# Altium integrated library NSC Legacy.IntLib: 687 symbols (part 1 of 17)
Pins are listed as number, name and electrical type; pins without a type are passive.

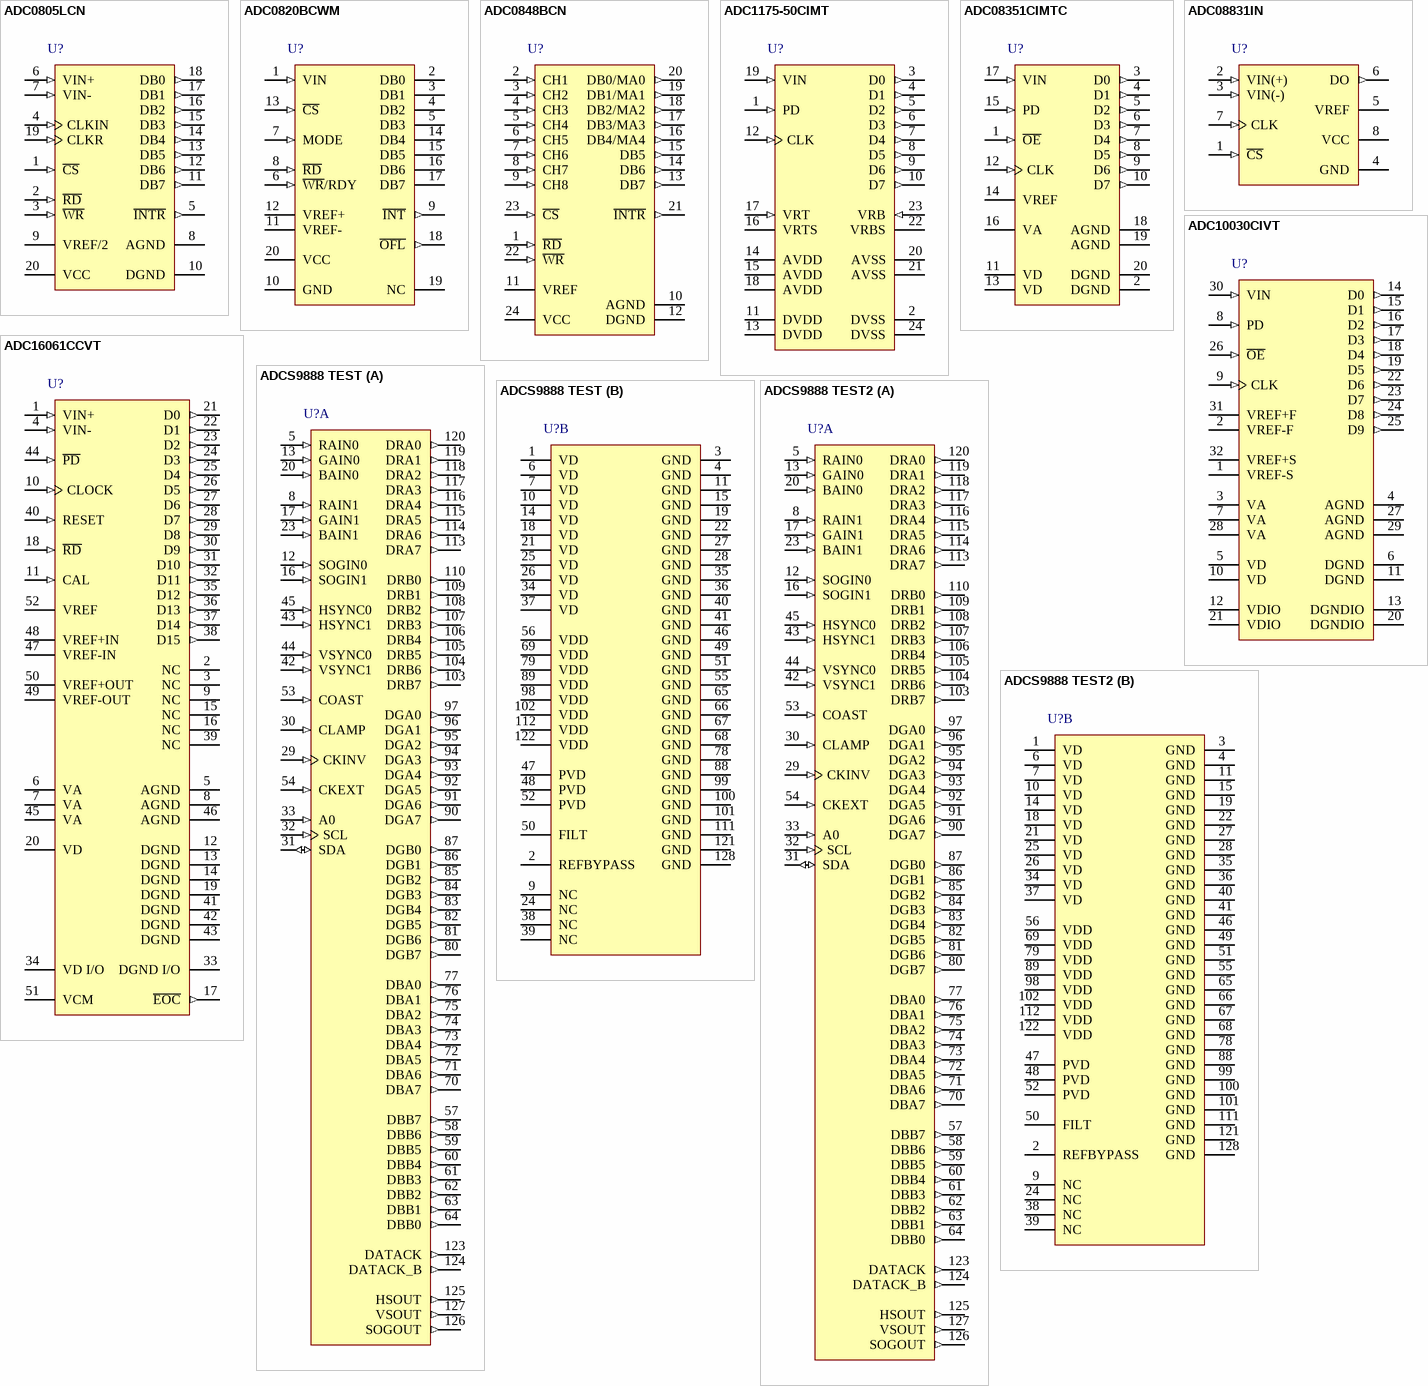
[diagram p0: symbols ADC0805LCN to ADCS9888 TEST2]

## ADC0805LCN
designator U?
8-Bit uP Compatible A/D Converters, 20-pin MDIP; PartNumber: ADC0805LCN; Manufacturer: National Semiconductor; PackageTopMarking: NSUZXYYTTE#*ADC0805LCN; CompType: ADC IC; Published: 4-Dec-2008; DatasheetVersion: Sep-1992; PackageVersion: revG, Nov-1984; PackageReference: N20A; Publisher: Altium Limited; PackageDescription: Molded Dip (N) 20 Lead; RoHS: Y; PinCount: 20; Code_JEDEC: MS-001-AD; ComponentLink1Description: ADC0805 Datasheet; ComponentLink1URL: http://www.national.com/ds/AD/ADC0805.pdf; ComponentLink2Description: ADC0805 Web Page; ComponentLink2URL: http://www.national.com/pf/AD/ADC0805.html; ComponentLink3Description: N20A Package Page; ComponentLink3URL: http://www.national.com/packaging/folders/n20a.html
footprint N20A (DIP, 20-Leads, Row Spacing 7.62mm, Pitch 2.54mm, Body 26.07x6.6mm)
pins: 1 ~{CS} (in), 2 ~{RD} (in), 3 ~{WR} (in), 4 CLKIN (in), 5 ~{INTR} (out), 6 VIN+ (in), 7 VIN- (in), 8 AGND (power), 9 VREF/2 (power), 10 DGND (power), 11 DB7 (out), 12 DB6 (out), 13 DB5 (out), 14 DB4 (out), 15 DB3 (out), 16 DB2 (out), 17 DB1 (out), 18 DB0 (out), 19 CLKR (in), 20 VCC (power)

## ADC0820BCWM
designator U?
8-Bit High Speed uP Compatible A/D Converter with Track/Hold Function, 20-pin Wide SOIC; PartNumber: ADC0820BCWM; Manufacturer: National Semiconductor; PackageTopMarking: NSUZXYTT*ADC0820*BCWM; CompType: ADC IC; Published: 4-Dec-2008; DatasheetVersion: May-1998; PackageVersion: revG, Jan-1996; PackageReference: M20B; Publisher: Altium Limited; PackageDescription: Molded Package, S0, .300in Wide, 20 Lead; RoHS: O; PinCount: 20; Code_JEDEC: MS-013-AC; Code_IPC: SOIC127P1030-20; ComponentLink1Description: ADC0820 Datasheet; ComponentLink1URL: http://www.national.com/ds/AD/ADC0820.pdf; ComponentLink2Description: ADC0820 Web Page; ComponentLink2URL: http://www.national.com/pf/AD/ADC0820.html; ComponentLink3Description: M20B Package Page; ComponentLink3URL: http://www.national.com/packaging/folders/m20b.html
footprint M20B_N (SOIC, 20-Leads, Body 12.8x7.5mm, Pitch 1.27mm, IPC Medium Density)
footprint M20B_L (SOIC, 20-Leads, Body 12.8x7.5mm, Pitch 1.27mm, IPC High Density)
footprint M20B_M (SOIC, 20-Leads, Body 12.8x7.5mm, Pitch 1.27mm, IPC Low Density)
pins: 1 VIN (in), 2 DB0 (hiz), 3 DB1 (hiz), 4 DB2 (hiz), 5 DB3 (hiz), 6 ~{WR}/RDY (in), 7 MODE (in), 8 ~{RD} (in), 9 ~{INT} (out), 10 GND (power), 11 VREF- (power), 12 VREF+ (power), 13 ~{CS} (in), 14 DB4 (hiz), 15 DB5 (hiz), 16 DB6 (hiz), 17 DB7 (hiz), 18 ~{OFL} (out), 19 NC, 20 VCC (power)

## ADC0848BCN
designator U?
8-Bit Microprocessor Compatible A/D Converter with Multiplexer Option, 24-pin MDIP; PartNumber: ADC0848BCN; Manufacturer: National Semiconductor; PackageTopMarking: NSUZXYYTTE#*ADC0848*BCN; CompType: ADC IC; Published: 4-Dec-2008; LatestRevisionDate: 13-Jan-2009; LatestRevisionNote: Package N24D replaced N24C.; DatasheetVersion: Dec-2008; PackageVersion: revB, Feb-1989; PackageReference: N24D; Publisher: Altium Limited; PackageDescription: Molded Dip (N), 24 Lead, .300in, Subcontractor Package; Supplier 1: Farnell; Supplier Part Number 1: 949838; RoHS: Y; PinCount: 24; Code_JEDEC: MS-001-AF; ComponentLink1Description: ADC0844 Datasheet; ComponentLink1URL: http://www.national.com/ds/AD/ADC0844.pdf; ComponentLink2Description: ADC0848 Web Page; ComponentLink2URL: http://www.national.com/mpf/DC/ADC0848.html; ComponentLink3Description: N24D Package Page; ComponentLink3URL: http://www.national.com/packaging/folders/n24d.html
footprint N24D (DIP, 24-Leads, Row Spacing 7.62mm, Pitch 2.54mm, Body 32x6.6mm)
pins: 1 ~{RD} (in), 2 CH1 (in), 3 CH2 (in), 4 CH3 (in), 5 CH4 (in), 6 CH5 (in), 7 CH6 (in), 8 CH7 (in), 9 CH8 (in), 10 AGND (power), 11 VREF (power), 12 DGND (power), 13 DB7 (out), 14 DB6 (out), 15 DB5 (out), 16 DB4/MA4 (out), 17 DB3/MA3 (out), 18 DB2/MA2 (out), 19 DB1/MA1 (out), 20 DB0/MA0 (out), 21 ~{INTR} (out), 22 ~{WR} (in), 23 ~{CS} (in), 24 VCC (power)

## ADC1175-50CIMT
designator U?
8-Bit, 50 MSPS, 125mW A/D Converter, 24-pin TSSOP; PartNumber: ADC1175-50CIMT; Manufacturer: National Semiconductor; PackageTopMarking: NSUZXYTT*ADC1175-50*CIMT; CompType: ADC IC; Published: 4-Dec-2008; DatasheetVersion: Nov-1998; PackageVersion: revE, Mar-2003; PackageReference: MTC24; Publisher: Altium Limited; PackageDescription: Molded TSSOP, Jedec, 7.8 x 4.4 x 0.9mm Body, 24 Lead, 0.65mm Pitch; RoHS: Y; PinCount: 24; Code_JEDEC: MO-153-AD; ComponentLink1Description: ADC1175-50 Datasheet; ComponentLink1URL: http://www.national.com/ds/AD/ADC1175-50.pdf; ComponentLink2Description: ADC1175-50 Web Page; ComponentLink2URL: http://www.national.com/pf/AD/ADC1175-50.html; ComponentLink3Description: MTC24 Package Page; ComponentLink3URL: http://www.national.com/packaging/folders/mtc24.html
footprint MTC24_N (TSOP, 24-Leads, Body 7.8x4.4mm, Pitch 0.65mm, IPC Medium Density)
footprint MTC24_L (TSOP, 24-Leads, Body 7.8x4.4mm, Pitch 0.65mm, IPC High Density)
footprint MTC24_M (TSOP, 24-Leads, Body 7.8x4.4mm, Pitch 0.65mm, IPC Low Density)
pins: 1 PD (in), 2 DVSS (power), 3 D0 (out), 4 D1 (out), 5 D2 (out), 6 D3 (out), 7 D4 (out), 8 D5 (out), 9 D6 (out), 10 D7 (out), 11 DVDD (power), 12 CLK (in), 13 DVDD (power), 14 AVDD (power), 15 AVDD (power), 16 VRTS (power), 17 VRT (in), 18 AVDD (power), 19 VIN (in), 20 AVSS (power), 21 AVSS (power), 22 VRBS (power), 23 VRB (in), 24 DVSS (power)

## ADC08351CIMTC
designator U?
8-Bit, 42 MSPS, 40mW A/D Converter, 20-pin TSSOP; PartNumber: ADC08351CIMTC; Manufacturer: National Semiconductor; PackageTopMarking: NSUZXYTT*ADC08351*CIMTC; CompType: ADC IC; Published: 4-Dec-2008; DatasheetVersion: Oct-1998; PackageVersion: revE, Mar-2003; PackageReference: MTC20; Publisher: Altium Limited; PackageDescription: Molded TSSOP, Jedec, 6.5 x 4.4 x 0.9mm Body, 20 Lead, 0.65mm Pitch; RoHS: Y; PinCount: 20; Code_JEDEC: MO-153-AC; ComponentLink1Description: ADC08351 Datasheet; ComponentLink1URL: http://www.national.com/ds/AD/ADC08351.pdf; ComponentLink2Description: ADC08351 Web Page; ComponentLink2URL: http://www.national.com/pf/AD/ADC08351.html; ComponentLink3Description: MTC20 Package Page; ComponentLink3URL: http://www.national.com/packaging/folders/mtc20.html
footprint MTC20_N (TSOP, 20-Leads, Body 6.5x4.4mm, Pitch 0.65mm, IPC Medium Density)
footprint MTC20_L (TSOP, 20-Leads, Body 6.5x4.4mm, Pitch 0.65mm, IPC High Density)
footprint MTC20_M (TSOP, 20-Leads, Body 6.5x4.4mm, Pitch 0.65mm, IPC Low Density)
pins: 1 ~{OE} (in), 2 DGND (power), 3 D0 (out), 4 D1 (out), 5 D2 (out), 6 D3 (out), 7 D4 (out), 8 D5 (out), 9 D6 (out), 10 D7 (out), 11 VD (power), 12 CLK (in), 13 VD (power), 14 VREF (power), 15 PD (in), 16 VA (power), 17 VIN (in), 18 AGND (power), 19 AGND (power), 20 DGND (power)

## ADC08831IN
designator U?
8-Bit Serial I/O CMOS A/D Converters with Multiplexer and Sample/Hold Function, 8-pin MDIP; PartNumber: ADC08831IN; Manufacturer: National Semiconductor; PackageTopMarking: NSUZXYTT*ADC08831*IN; CompType: ADC IC; Published: 4-Dec-2008; DatasheetVersion: Dec-1998; PackageVersion: revG, May-2006; PackageReference: N08E; Publisher: Altium Limited; PackageDescription: MDIP, .365 x .250 x .130in, 8 Lead, .100in Pitch; RoHS: Y; PinCount: 8; Code_JEDEC: MS-001-BA; ComponentLink1Description: ADC08831 Datasheet; ComponentLink1URL: http://www.national.com/ds/AD/ADC08831.pdf; ComponentLink2Description: ADC08831 Web Page; ComponentLink2URL: http://www.national.com/pf/AD/ADC08831.html; ComponentLink3Description: N08E Package Page; ComponentLink3URL: http://www.national.com/packaging/folders/n08e.html
footprint N08E (DIP, 8-Leads, Row Spacing 7.62mm, Pitch 2.54mm, Body 9.91x6.35mm)
pins: 1 ~{CS} (in), 2 VIN(+) (in), 3 VIN(-) (in), 4 GND (power), 5 VREF (power), 6 DO (out), 7 CLK (in), 8 VCC (power)

## ADC10030CIVT
designator U?
10-Bit, 30 MSPS, 125 mW A/D Converter with Internal Sample and Hold, 32-pin LQFP; PartNumber: ADC10030CIVT; Manufacturer: National Semiconductor; PackageTopMarking: NS2ZXYTT*ADC10030*CIVT; CompType: ADC IC; Published: 4-Dec-2008; DatasheetVersion: May-1999; PackageVersion: revE, Dec-1999; PackageReference: VBE32A; Publisher: Altium Limited; PackageDescription: LQFP, JEDEC, Metric, 7 x 7 x 1.4mm, 32 Lead; RoHS: Y; PinCount: 32; ComponentLink1Description: ADC10030 Datasheet; ComponentLink1URL: http://www.national.com/ds/AD/ADC10030.pdf; ComponentLink2Description: ADC10030 Web Page; ComponentLink2URL: http://www.national.com/pf/AD/ADC10030.html; ComponentLink3Description: VBE32A Package Page; ComponentLink3URL: http://www.national.com/packaging/folders/vbe32a.html
footprint VBE32A_N (Thin QFP, 32-Leads, Body 7x7mm, Pitch 0.8mm, IPC Medium Density)
footprint VBE32A_L (Thin QFP, 32-Leads, Body 7x7mm, Pitch 0.8mm, IPC High Density)
footprint VBE32A_M (Thin QFP, 32-Leads, Body 7x7mm, Pitch 0.8mm, IPC Low Density)
pins: 1 VREF-S (power), 2 VREF-F (power), 3 VA (power), 4 AGND (power), 5 VD (power), 6 DGND (power), 7 VA (power), 8 PD (in), 9 CLK (in), 10 VD (power), 11 DGND (power), 12 VDIO (power), 13 DGNDIO (power), 14 D0 (out), 15 D1 (out), 16 D2 (out), 17 D3 (out), 18 D4 (out), 19 D5 (out), 20 DGNDIO (power), 21 VDIO (power), 22 D6 (out), 23 D7 (out), 24 D8 (out), 25 D9 (out), 26 ~{OE} (in), 27 AGND (power), 28 VA (power), 29 AGND (power), 30 VIN (in), 31 VREF+F (power), 32 VREF+S (power)

## ADC16061CCVT
designator U?
Self-Calibrating 16-Bit, 2.5 MSPS, 390mW A/D Converter, 52-pin LQFP; PartNumber: ADC16061CCVT; Manufacturer: National Semiconductor; PackageTopMarking: NSUZXYYTT*ADC16061*CCVT; PowerWise: N; CompType: ADC IC; Published: 4-Dec-2008; DatasheetVersion: Feb-2004; PackageVersion: revB, Dec-1999; PackageReference: VEG52A; Publisher: Altium Limited; PackageDescription: LQFP, Jedec, Metric, 10 x 10 x 1.4mm, 52 Lead; RoHS: Y; PinCount: 52; Code_JEDEC: MS-026-BCC; ComponentLink1Description: ADC16061 Datasheet; ComponentLink1URL: http://www.national.com/ds/AD/ADC16061.pdf; ComponentLink2Description: ADC16061 Web Page; ComponentLink2URL: http://www.national.com/pf/AD/ADC16061.html; ComponentLink3Description: VEG52A Package Page; ComponentLink3URL: http://www.national.com/packaging/folders/veg52a.html
footprint VEG52A_N (Thin QFP, 52-Leads, Body 10 x 10mm, Pitch 0.65mm, IPC Medium Density)
footprint VEG52A_L (Thin QFP, 52-Leads, Body 10 x 10mm, Pitch 0.65mm, IPC High Density)
footprint VEG52A_M (Thin QFP, 52-Leads, Body 10 x 10mm, Pitch 0.65mm, IPC Low Density)
pins: 1 VIN+ (in), 2 NC, 3 NC, 4 VIN- (in), 5 AGND (power), 6 VA (power), 7 VA (power), 8 AGND (power), 9 NC, 10 CLOCK (in), 11 CAL (in), 12 DGND (power), 13 DGND (power), 14 DGND (power), 15 NC, 16 NC, 17 ~{EOC} (out), 18 ~{RD} (in), 19 DGND (power), 20 VD (power), 21 D0 (out), 22 D1 (out), 23 D2 (out), 24 D3 (out), 25 D4 (out), 26 D5 (out), 27 D6 (out), 28 D7 (out), 29 D8 (out), 30 D9 (out), 31 D10 (out), 32 D11 (out), 33 DGND I/O (power), 34 VD I/O (power), 35 D12 (out), 36 D13 (out), 37 D14 (out), 38 D15 (out), 39 NC, 40 RESET (in), 41 DGND (power), 42 DGND (power), 43 DGND (power), 44 ~{PD} (in), 45 VA (power), 46 AGND (power), 47 VREF-IN (power), 48 VREF+IN (power), 49 VREF-OUT (power), 50 VREF+OUT (power), 51 VCM (power), 52 VREF (power)

## ADCS9888 TEST
designator U?
205/170/140 MSPS Video Analog Front End, 128-pin PQFP; PartNumber: ADCS9888 TEST; Manufacturer: National Semiconductor; PackageTopMarking: NSUZXYYTTE#*ADCS9888 TEST; PowerWise: N; CompType: ADC IC; Published: 4-Dec-2008; DatasheetVersion: Jun-2007; PackageVersion: revC, Jun-1998; PackageReference: VLA128A; Publisher: Altium Limited; PackageDescription: PQFP, (S), 14 x 20 x 2.7mm, 128 Lead; RoHS: N; PinCount: 128; ComponentLink1Description: ADCS9888 Datasheet; ComponentLink1URL: http://www.national.com/ds/AD/ADCS9888.pdf; ComponentLink2Description: ADCS9888 Web Page; ComponentLink2URL: http://www.national.com/pf/AD/ADCS9888.html; ComponentLink3Description: VLA128A Package Page; ComponentLink3URL: http://www.national.com/packaging/folders/vla128a.html
footprint VLA128A_N (Shrink QFP, 128-Leads, Body 20x14 mm, Pitch 0.5mm, IPC Medium Density)
footprint VLA128A_L (Shrink QFP, 128-Leads, Body 20x14 mm, Pitch 0.5mm, IPC High Density)
footprint VLA128A_M (Shrink QFP, 128-Leads, Body 20x14 mm, Pitch 0.5mm, IPC Low Density)
part A pins: 5 RAIN0 (in), 8 RAIN1 (in), 12 SOGIN0 (in), 13 GAIN0 (in), 16 SOGIN1 (in), 17 GAIN1 (in), 20 BAIN0 (in), 23 BAIN1 (in), 29 CKINV (in), 30 CLAMP (in), 31 SDA (io), 32 SCL (in), 33 A0 (in), 42 VSYNC1 (in), 43 HSYNC1 (in), 44 VSYNC0 (in), 45 HSYNC0 (in), 53 COAST (in), 54 CKEXT (in), 57 DBB7 (out), 58 DBB6 (out), 59 DBB5 (out), 60 DBB4 (out), 61 DBB3 (out), 62 DBB2 (out), 63 DBB1 (out), 64 DBB0 (out), 70 DBA7 (out), 71 DBA6 (out), 72 DBA5 (out), 73 DBA4 (out), 74 DBA3 (out), 75 DBA2 (out), 76 DBA1 (out), 77 DBA0 (out), 80 DGB7 (out), 81 DGB6 (out), 82 DGB5 (out), 83 DGB4 (out), 84 DGB3 (out), 85 DGB2 (out), 86 DGB1 (out), 87 DGB0 (out), 90 DGA7 (out), 91 DGA6 (out), 92 DGA5 (out), 93 DGA4 (out), 94 DGA3 (out), 95 DGA2 (out), 96 DGA1 (out), 97 DGA0 (out), 103 DRB7 (out), 104 DRB6 (out), 105 DRB5 (out), 106 DRB4 (out), 107 DRB3 (out), 108 DRB2 (out), 109 DRB1 (out), 110 DRB0 (out), 113 DRA7 (out), 114 DRA6 (out), 115 DRA5 (out), 116 DRA4 (out), 117 DRA3 (out), 118 DRA2 (out), 119 DRA1 (out), 120 DRA0 (out), 123 DATACK (out), 124 DATACK_B (out), 125 HSOUT (out), 126 SOGOUT (out), 127 VSOUT (out)
part B pins: 1 VD (power), 2 REFBYPASS, 3 GND (power), 4 GND (power), 6 VD (power), 7 VD (power), 9 NC, 10 VD (power), 11 GND (power), 14 VD (power), 15 GND (power), 18 VD (power), 19 GND (power), 21 VD (power), 22 GND (power), 24 NC, 25 VD (power), 26 VD (power), 27 GND (power), 28 GND (power), 34 VD (power), 35 GND (power), 36 GND (power), 37 VD (power), 38 NC, 39 NC, 40 GND (power), 41 GND (power), 46 GND (power), 47 PVD (power), 48 PVD (power), 49 GND (power), 50 FILT, 51 GND (power), 52 PVD (power), 55 GND (power), 56 VDD (power), 65 GND (power), 66 GND (power), 67 GND (power), 68 GND (power), 69 VDD (power), 78 GND (power), 79 VDD (power), 88 GND (power), 89 VDD (power), 98 VDD (power), 99 GND (power), 100 GND (power), 101 GND (power), 102 VDD (power), 111 GND (power), 112 VDD (power), 121 GND (power), 122 VDD (power), 128 GND (power)

## ADCS9888 TEST2
designator U?
205/170/140 MSPS Video Analog Front End, 128-pin PQFP; PartNumber: ADCS9888 TEST2; Manufacturer: National Semiconductor; PackageTopMarking: NSUZXYYTTE#*ADCS9888 TEST2; PowerWise: N; CompType: ADC IC; Published: 4-Dec-2008; DatasheetVersion: Jun-2007; PackageVersion: revC, Jun-1998; PackageReference: VLA128A; Publisher: Altium Limited; PackageDescription: PQFP, (S), 14 x 20 x 2.7mm, 128 Lead; RoHS: N; PinCount: 128; ComponentLink1Description: ADCS9888 Datasheet; ComponentLink1URL: http://www.national.com/ds/AD/ADCS9888.pdf; ComponentLink2Description: ADCS9888 Web Page; ComponentLink2URL: http://www.national.com/pf/AD/ADCS9888.html; ComponentLink3Description: VLA128A Package Page; ComponentLink3URL: http://www.national.com/packaging/folders/vla128a.html
footprint VLA128A_N (Shrink QFP, 128-Leads, Body 20x14 mm, Pitch 0.5mm, IPC Medium Density)
footprint VLA128A_L (Shrink QFP, 128-Leads, Body 20x14 mm, Pitch 0.5mm, IPC High Density)
footprint VLA128A_M (Shrink QFP, 128-Leads, Body 20x14 mm, Pitch 0.5mm, IPC Low Density)
part A pins: 5 RAIN0 (in), 8 RAIN1 (in), 12 SOGIN0 (in), 13 GAIN0 (in), 16 SOGIN1 (in), 17 GAIN1 (in), 20 BAIN0 (in), 23 BAIN1 (in), 29 CKINV (in), 30 CLAMP (in), 31 SDA (io), 32 SCL (in), 33 A0 (in), 42 VSYNC1 (in), 43 HSYNC1 (in), 44 VSYNC0 (in), 45 HSYNC0 (in), 53 COAST (in), 54 CKEXT (in), 57 DBB7 (out), 58 DBB6 (out), 59 DBB5 (out), 60 DBB4 (out), 61 DBB3 (out), 62 DBB2 (out), 63 DBB1 (out), 64 DBB0 (out), 70 DBA7 (out), 71 DBA6 (out), 72 DBA5 (out), 73 DBA4 (out), 74 DBA3 (out), 75 DBA2 (out), 76 DBA1 (out), 77 DBA0 (out), 80 DGB7 (out), 81 DGB6 (out), 82 DGB5 (out), 83 DGB4 (out), 84 DGB3 (out), 85 DGB2 (out), 86 DGB1 (out), 87 DGB0 (out), 90 DGA7 (out), 91 DGA6 (out), 92 DGA5 (out), 93 DGA4 (out), 94 DGA3 (out), 95 DGA2 (out), 96 DGA1 (out), 97 DGA0 (out), 103 DRB7 (out), 104 DRB6 (out), 105 DRB5 (out), 106 DRB4 (out), 107 DRB3 (out), 108 DRB2 (out), 109 DRB1 (out), 110 DRB0 (out), 113 DRA7 (out), 114 DRA6 (out), 115 DRA5 (out), 116 DRA4 (out), 117 DRA3 (out), 118 DRA2 (out), 119 DRA1 (out), 120 DRA0 (out), 123 DATACK (out), 124 DATACK_B (out), 125 HSOUT (out), 126 SOGOUT (out), 127 VSOUT (out)
part B pins: 1 VD (power), 2 REFBYPASS, 3 GND (power), 4 GND (power), 6 VD (power), 7 VD (power), 9 NC, 10 VD (power), 11 GND (power), 14 VD (power), 15 GND (power), 18 VD (power), 19 GND (power), 21 VD (power), 22 GND (power), 24 NC, 25 VD (power), 26 VD (power), 27 GND (power), 28 GND (power), 34 VD (power), 35 GND (power), 36 GND (power), 37 VD (power), 38 NC, 39 NC, 40 GND (power), 41 GND (power), 46 GND (power), 47 PVD (power), 48 PVD (power), 49 GND (power), 50 FILT, 51 GND (power), 52 PVD (power), 55 GND (power), 56 VDD (power), 65 GND (power), 66 GND (power), 67 GND (power), 68 GND (power), 69 VDD (power), 78 GND (power), 79 VDD (power), 88 GND (power), 89 VDD (power), 98 VDD (power), 99 GND (power), 100 GND (power), 101 GND (power), 102 VDD (power), 111 GND (power), 112 VDD (power), 121 GND (power), 122 VDD (power), 128 GND (power)

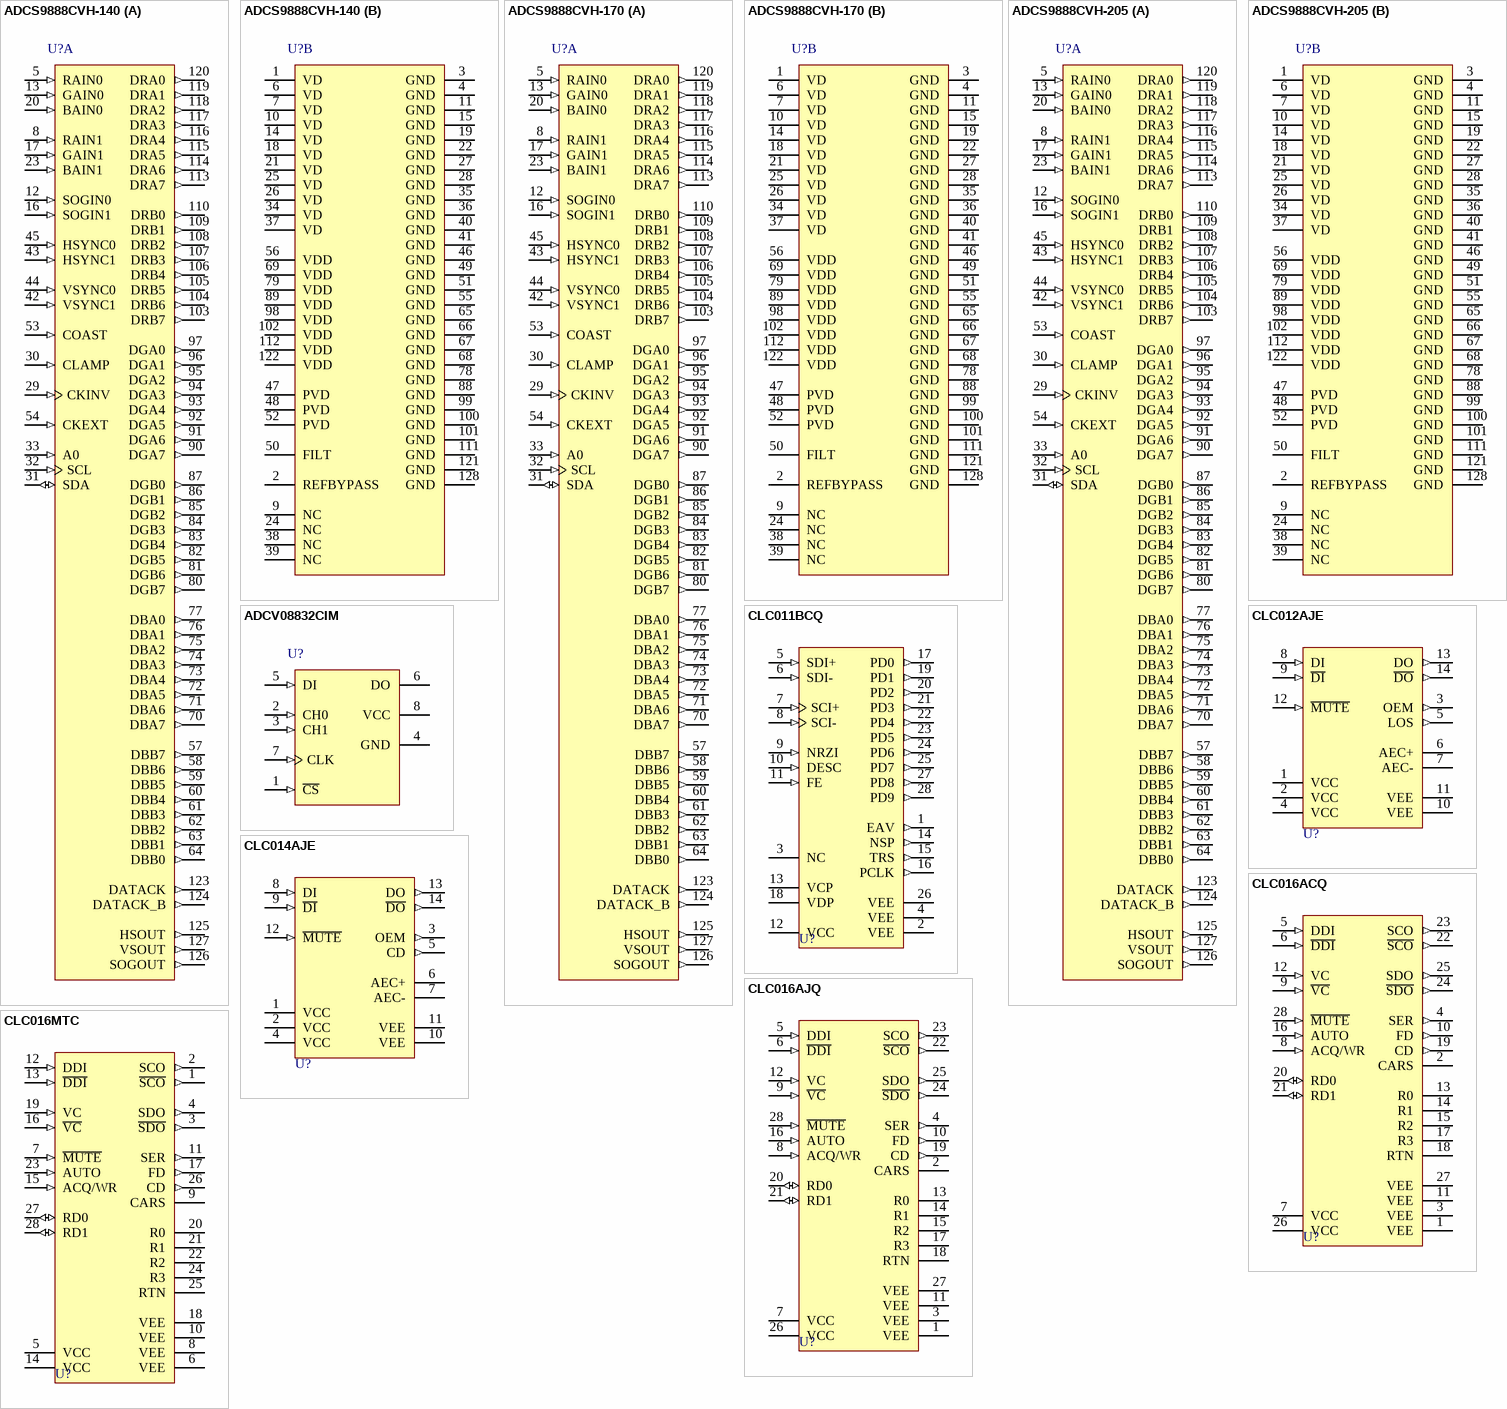
[diagram p1: symbols ADCS9888CVH-140 to CLC016MTC]

## ADCS9888CVH-140
designator U?
205/170/140 MSPS Video Analog Front End, 128-pin PQFP; PartNumber: ADCS9888CVH-140; Manufacturer: National Semiconductor; PackageTopMarking: NSUZXYYTTE#*ADCS9888CVH*-140; CompType: ADC IC; Published: 4-Dec-2008; DatasheetVersion: Dec-2003; PackageVersion: revC, Jun-1998; PackageReference: VLA128A; Publisher: Altium Limited; PackageDescription: PQFP, (S), 14 x 20 x 2.7mm, 128 Lead; Supplier 1: Farnell; Supplier Part Number 1: 8181438; RoHS: Y; PinCount: 128; ComponentLink1Description: ADCS9888 Datasheet; ComponentLink1URL: http://www.national.com/ds/AD/ADCS9888.pdf; ComponentLink2Description: ADCS9888 Web Page; ComponentLink2URL: http://www.national.com/pf/AD/ADCS9888.html; ComponentLink3Description: VLA128A Package Page; ComponentLink3URL: http://www.national.com/packaging/folders/vla128a.html
footprint VLA128A_N (Shrink QFP, 128-Leads, Body 20x14 mm, Pitch 0.5mm, IPC Medium Density)
footprint VLA128A_L (Shrink QFP, 128-Leads, Body 20x14 mm, Pitch 0.5mm, IPC High Density)
footprint VLA128A_M (Shrink QFP, 128-Leads, Body 20x14 mm, Pitch 0.5mm, IPC Low Density)
part A pins: 5 RAIN0 (in), 8 RAIN1 (in), 12 SOGIN0 (in), 13 GAIN0 (in), 16 SOGIN1 (in), 17 GAIN1 (in), 20 BAIN0 (in), 23 BAIN1 (in), 29 CKINV (in), 30 CLAMP (in), 31 SDA (io), 32 SCL (in), 33 A0 (in), 42 VSYNC1 (in), 43 HSYNC1 (in), 44 VSYNC0 (in), 45 HSYNC0 (in), 53 COAST (in), 54 CKEXT (in), 57 DBB7 (out), 58 DBB6 (out), 59 DBB5 (out), 60 DBB4 (out), 61 DBB3 (out), 62 DBB2 (out), 63 DBB1 (out), 64 DBB0 (out), 70 DBA7 (out), 71 DBA6 (out), 72 DBA5 (out), 73 DBA4 (out), 74 DBA3 (out), 75 DBA2 (out), 76 DBA1 (out), 77 DBA0 (out), 80 DGB7 (out), 81 DGB6 (out), 82 DGB5 (out), 83 DGB4 (out), 84 DGB3 (out), 85 DGB2 (out), 86 DGB1 (out), 87 DGB0 (out), 90 DGA7 (out), 91 DGA6 (out), 92 DGA5 (out), 93 DGA4 (out), 94 DGA3 (out), 95 DGA2 (out), 96 DGA1 (out), 97 DGA0 (out), 103 DRB7 (out), 104 DRB6 (out), 105 DRB5 (out), 106 DRB4 (out), 107 DRB3 (out), 108 DRB2 (out), 109 DRB1 (out), 110 DRB0 (out), 113 DRA7 (out), 114 DRA6 (out), 115 DRA5 (out), 116 DRA4 (out), 117 DRA3 (out), 118 DRA2 (out), 119 DRA1 (out), 120 DRA0 (out), 123 DATACK (out), 124 DATACK_B (out), 125 HSOUT (out), 126 SOGOUT (out), 127 VSOUT (out)
part B pins: 1 VD (power), 2 REFBYPASS, 3 GND (power), 4 GND (power), 6 VD (power), 7 VD (power), 9 NC, 10 VD (power), 11 GND (power), 14 VD (power), 15 GND (power), 18 VD (power), 19 GND (power), 21 VD (power), 22 GND (power), 24 NC, 25 VD (power), 26 VD (power), 27 GND (power), 28 GND (power), 34 VD (power), 35 GND (power), 36 GND (power), 37 VD (power), 38 NC, 39 NC, 40 GND (power), 41 GND (power), 46 GND (power), 47 PVD (power), 48 PVD (power), 49 GND (power), 50 FILT, 51 GND (power), 52 PVD (power), 55 GND (power), 56 VDD (power), 65 GND (power), 66 GND (power), 67 GND (power), 68 GND (power), 69 VDD (power), 78 GND (power), 79 VDD (power), 88 GND (power), 89 VDD (power), 98 VDD (power), 99 GND (power), 100 GND (power), 101 GND (power), 102 VDD (power), 111 GND (power), 112 VDD (power), 121 GND (power), 122 VDD (power), 128 GND (power)

## ADCS9888CVH-170
designator U?
205/170/140 MSPS Video Analog Front End, 128-pin PQFP; PartNumber: ADCS9888CVH-170; Manufacturer: National Semiconductor; PackageTopMarking: NSUZXYYTTE#*ADCS9888CVH*-170; CompType: ADC IC; Published: 4-Dec-2008; DatasheetVersion: Dec-2003; PackageVersion: revC, Jun-1998; PackageReference: VLA128A; Publisher: Altium Limited; PackageDescription: PQFP, (S), 14 x 20 x 2.7mm, 128 Lead; Supplier 1: Farnell; Supplier Part Number 1: 8181446; RoHS: O; PinCount: 128; ComponentLink1Description: ADCS9888 Datasheet; ComponentLink1URL: http://www.national.com/ds/AD/ADCS9888.pdf; ComponentLink2Description: ADCS9888 Web Page; ComponentLink2URL: http://www.national.com/pf/AD/ADCS9888.html; ComponentLink3Description: VLA128A Package Page; ComponentLink3URL: http://www.national.com/packaging/folders/vla128a.html
footprint VLA128A_N (Shrink QFP, 128-Leads, Body 20x14 mm, Pitch 0.5mm, IPC Medium Density)
footprint VLA128A_L (Shrink QFP, 128-Leads, Body 20x14 mm, Pitch 0.5mm, IPC High Density)
footprint VLA128A_M (Shrink QFP, 128-Leads, Body 20x14 mm, Pitch 0.5mm, IPC Low Density)
part A pins: 5 RAIN0 (in), 8 RAIN1 (in), 12 SOGIN0 (in), 13 GAIN0 (in), 16 SOGIN1 (in), 17 GAIN1 (in), 20 BAIN0 (in), 23 BAIN1 (in), 29 CKINV (in), 30 CLAMP (in), 31 SDA (io), 32 SCL (in), 33 A0 (in), 42 VSYNC1 (in), 43 HSYNC1 (in), 44 VSYNC0 (in), 45 HSYNC0 (in), 53 COAST (in), 54 CKEXT (in), 57 DBB7 (out), 58 DBB6 (out), 59 DBB5 (out), 60 DBB4 (out), 61 DBB3 (out), 62 DBB2 (out), 63 DBB1 (out), 64 DBB0 (out), 70 DBA7 (out), 71 DBA6 (out), 72 DBA5 (out), 73 DBA4 (out), 74 DBA3 (out), 75 DBA2 (out), 76 DBA1 (out), 77 DBA0 (out), 80 DGB7 (out), 81 DGB6 (out), 82 DGB5 (out), 83 DGB4 (out), 84 DGB3 (out), 85 DGB2 (out), 86 DGB1 (out), 87 DGB0 (out), 90 DGA7 (out), 91 DGA6 (out), 92 DGA5 (out), 93 DGA4 (out), 94 DGA3 (out), 95 DGA2 (out), 96 DGA1 (out), 97 DGA0 (out), 103 DRB7 (out), 104 DRB6 (out), 105 DRB5 (out), 106 DRB4 (out), 107 DRB3 (out), 108 DRB2 (out), 109 DRB1 (out), 110 DRB0 (out), 113 DRA7 (out), 114 DRA6 (out), 115 DRA5 (out), 116 DRA4 (out), 117 DRA3 (out), 118 DRA2 (out), 119 DRA1 (out), 120 DRA0 (out), 123 DATACK (out), 124 DATACK_B (out), 125 HSOUT (out), 126 SOGOUT (out), 127 VSOUT (out)
part B pins: 1 VD (power), 2 REFBYPASS, 3 GND (power), 4 GND (power), 6 VD (power), 7 VD (power), 9 NC, 10 VD (power), 11 GND (power), 14 VD (power), 15 GND (power), 18 VD (power), 19 GND (power), 21 VD (power), 22 GND (power), 24 NC, 25 VD (power), 26 VD (power), 27 GND (power), 28 GND (power), 34 VD (power), 35 GND (power), 36 GND (power), 37 VD (power), 38 NC, 39 NC, 40 GND (power), 41 GND (power), 46 GND (power), 47 PVD (power), 48 PVD (power), 49 GND (power), 50 FILT, 51 GND (power), 52 PVD (power), 55 GND (power), 56 VDD (power), 65 GND (power), 66 GND (power), 67 GND (power), 68 GND (power), 69 VDD (power), 78 GND (power), 79 VDD (power), 88 GND (power), 89 VDD (power), 98 VDD (power), 99 GND (power), 100 GND (power), 101 GND (power), 102 VDD (power), 111 GND (power), 112 VDD (power), 121 GND (power), 122 VDD (power), 128 GND (power)

## ADCS9888CVH-205
designator U?
205/170/140 MSPS Video Analog Front End, 128-pin PQFP; PartNumber: ADCS9888CVH-205; Manufacturer: National Semiconductor; PackageTopMarking: NSUZXYYTTE#*ADCS9888CVH*-205; CompType: ADC IC; Published: 4-Dec-2008; DatasheetVersion: Dec-2003; PackageVersion: revC, Jun-1998; PackageReference: VLA128A; Publisher: Altium Limited; PackageDescription: PQFP, (S), 14 x 20 x 2.7mm, 128 Lead; Supplier 1: Farnell; Supplier Part Number 1: 8181454; RoHS: Y; PinCount: 128; ComponentLink1Description: ADCS9888 Datasheet; ComponentLink1URL: http://www.national.com/ds/AD/ADCS9888.pdf; ComponentLink2Description: ADCS9888 Web Page; ComponentLink2URL: http://www.national.com/pf/AD/ADCS9888.html; ComponentLink3Description: VLA128A Package Page; ComponentLink3URL: http://www.national.com/packaging/folders/vla128a.html
footprint VLA128A_N (Shrink QFP, 128-Leads, Body 20x14 mm, Pitch 0.5mm, IPC Medium Density)
footprint VLA128A_L (Shrink QFP, 128-Leads, Body 20x14 mm, Pitch 0.5mm, IPC High Density)
footprint VLA128A_M (Shrink QFP, 128-Leads, Body 20x14 mm, Pitch 0.5mm, IPC Low Density)
part A pins: 5 RAIN0 (in), 8 RAIN1 (in), 12 SOGIN0 (in), 13 GAIN0 (in), 16 SOGIN1 (in), 17 GAIN1 (in), 20 BAIN0 (in), 23 BAIN1 (in), 29 CKINV (in), 30 CLAMP (in), 31 SDA (io), 32 SCL (in), 33 A0 (in), 42 VSYNC1 (in), 43 HSYNC1 (in), 44 VSYNC0 (in), 45 HSYNC0 (in), 53 COAST (in), 54 CKEXT (in), 57 DBB7 (out), 58 DBB6 (out), 59 DBB5 (out), 60 DBB4 (out), 61 DBB3 (out), 62 DBB2 (out), 63 DBB1 (out), 64 DBB0 (out), 70 DBA7 (out), 71 DBA6 (out), 72 DBA5 (out), 73 DBA4 (out), 74 DBA3 (out), 75 DBA2 (out), 76 DBA1 (out), 77 DBA0 (out), 80 DGB7 (out), 81 DGB6 (out), 82 DGB5 (out), 83 DGB4 (out), 84 DGB3 (out), 85 DGB2 (out), 86 DGB1 (out), 87 DGB0 (out), 90 DGA7 (out), 91 DGA6 (out), 92 DGA5 (out), 93 DGA4 (out), 94 DGA3 (out), 95 DGA2 (out), 96 DGA1 (out), 97 DGA0 (out), 103 DRB7 (out), 104 DRB6 (out), 105 DRB5 (out), 106 DRB4 (out), 107 DRB3 (out), 108 DRB2 (out), 109 DRB1 (out), 110 DRB0 (out), 113 DRA7 (out), 114 DRA6 (out), 115 DRA5 (out), 116 DRA4 (out), 117 DRA3 (out), 118 DRA2 (out), 119 DRA1 (out), 120 DRA0 (out), 123 DATACK (out), 124 DATACK_B (out), 125 HSOUT (out), 126 SOGOUT (out), 127 VSOUT (out)
part B pins: 1 VD (power), 2 REFBYPASS, 3 GND (power), 4 GND (power), 6 VD (power), 7 VD (power), 9 NC, 10 VD (power), 11 GND (power), 14 VD (power), 15 GND (power), 18 VD (power), 19 GND (power), 21 VD (power), 22 GND (power), 24 NC, 25 VD (power), 26 VD (power), 27 GND (power), 28 GND (power), 34 VD (power), 35 GND (power), 36 GND (power), 37 VD (power), 38 NC, 39 NC, 40 GND (power), 41 GND (power), 46 GND (power), 47 PVD (power), 48 PVD (power), 49 GND (power), 50 FILT, 51 GND (power), 52 PVD (power), 55 GND (power), 56 VDD (power), 65 GND (power), 66 GND (power), 67 GND (power), 68 GND (power), 69 VDD (power), 78 GND (power), 79 VDD (power), 88 GND (power), 89 VDD (power), 98 VDD (power), 99 GND (power), 100 GND (power), 101 GND (power), 102 VDD (power), 111 GND (power), 112 VDD (power), 121 GND (power), 122 VDD (power), 128 GND (power)

## ADCV08832CIM
designator U?
Low Voltage, 8-Bit Serial I/O CMOS A/D Converter With Sample/Hold, 8-pin Narrow SOIC; PartNumber: ADCV08832CIM; Manufacturer: National Semiconductor; PackageTopMarking: NSZXTT*ADCV0*8832I; CompType: ADC IC; Published: 4-Dec-2008; DatasheetVersion: Jan-2001; PackageVersion: revM, May-2009; PackageReference: M08A; Publisher: Altium Limited; PackageDescription: SOIC Narrow, 4.9 x 3.9 x 1.45mm, 8 Lead, 1.27mm Pitch; RoHS: O; PinCount: 8; Code_JEDEC: MS-012-AA; Code_IPC: SOIC127P600-8; ComponentLink1Description: ADCV08832 Datasheet; ComponentLink1URL: http://www.national.com/ds/AD/ADCV08832.pdf; ComponentLink2Description: ADCV08832 Web Page; ComponentLink2URL: http://www.national.com/pf/AD/ADCV08832.html; ComponentLink3Description: M08A Package Page; ComponentLink3URL: http://www.national.com/packaging/folders/m08a.html
footprint M08A_N (SOIC, 8-Leads, Body 4.9x3.9mm, Pitch 1.27mm, IPC Medium Density)
footprint M08A_L (SOIC, 8-Leads, Body 4.9x3.9mm, Pitch 1.27mm, IPC High Density)
footprint M08A_M (SOIC, 8-Leads, Body 4.9x3.9mm, Pitch 1.27mm, IPC Low Density)
pins: 1 ~{CS} (in), 2 CH0 (in), 3 CH1 (in), 4 GND (power), 5 DI (in), 6 DO (hiz), 7 CLK (in), 8 VCC (power)

## CLC011BCQ
designator U?
Serial Digital Video Decoder, 28-pin PLCC; PartNumber: CLC011BCQ; Manufacturer: National Semiconductor; PackageTopMarking: NSUZXYYTT*CLC011BCQ; CompType: Interface IC; Published: 4-Dec-2008; DatasheetVersion: Jul-2002; PackageVersion: revK, Dec-1993; PackageReference: V28A; Publisher: Altium Limited; PackageDescription: Plastic Chip Carrier, Sq., .050in Pitch, 28 Lead; Supplier 1: Farnell; Supplier Part Number 1: 7613672; RoHS: O; PinCount: 28; Code_IPC: PLCC-28; ComponentLink1Description: CLC011 Datasheet; ComponentLink1URL: http://www.national.com/ds/CL/CLC011.pdf; ComponentLink2Description: CLC011 Web Page; ComponentLink2URL: http://www.national.com/pf/CL/CLC011.html; ComponentLink3Description: V28A Package Page; ComponentLink3URL: http://www.national.com/packaging/folders/v28a.html
footprint V28A_N (Leaded Chip Carrier, 28-Leads, Body 11.5x11.5mm, Pitch 1.27mm, IPC Medium Density)
footprint V28A_L (Leaded Chip Carrier, 28-Leads, Body 11.5x11.5mm, Pitch 1.27mm, IPC High Density)
footprint V28A_M (Leaded Chip Carrier, 28-Leads, Body 11.5x11.5mm, Pitch 1.27mm, IPC Low Density)
pins: 1 EAV (out), 2 VEE (power), 3 NC, 4 VEE (power), 5 SDI+ (in), 6 SDI- (in), 7 SCI+ (in), 8 SCI- (in), 9 NRZI (in), 10 DESC (in), 11 FE (in), 12 VCC (power), 13 VCP (power), 14 NSP (out), 15 TRS (out), 16 PCLK (out), 17 PD0 (out), 18 VDP (power), 19 PD1 (out), 20 PD2 (out), 21 PD3 (out), 22 PD4 (out), 23 PD5 (out), 24 PD6 (out), 25 PD7 (out), 26 VEE (power), 27 PD8 (out), 28 PD9 (out)

## CLC012AJE
designator U?
Adaptive Cable Equalizer for ITU-T G.703 Data Recovery, 14-pin Narrow SOIC; PartNumber: CLC012AJE; Manufacturer: National Semiconductor; PackageTopMarking: NSUZXYTT*CLC012AJE; PowerWise: N; CompType: Interface IC; Published: 4-Dec-2008; DatasheetVersion: Nov-2003; PackageVersion: revJ, Jan-1996; PackageReference: M14A; Publisher: Altium Limited; PackageDescription: Molded Package S.O., .150in Wide, 14 Lead; RoHS: O; PinCount: 14; Code_JEDEC: MS-012AB; Code_IPC: SOIC127P600-14; ComponentLink1Description: CLC012 Datasheet; ComponentLink1URL: http://www.national.com/ds/CL/CLC012.pdf; ComponentLink2Description: CLC012 Web Page; ComponentLink2URL: http://www.national.com/pf/CL/CLC012.html; ComponentLink3Description: M14A Package Page; ComponentLink3URL: http://www.national.com/packaging/folders/m14a.html
footprint M14A_N (SOIC, 14-Leads, Body 8.6x3.9mm, Pitch 1.27mm, IPC Medium Density)
footprint M14A_L (SOIC, 14-Leads, Body 8.6x3.9mm, Pitch 1.27mm, IPC High Density)
footprint M14A_M (SOIC, 14-Leads, Body 8.6x3.9mm, Pitch 1.27mm, IPC Low Density)
pins: 1 VCC (power), 2 VCC (power), 3 OEM (out), 4 VCC (power), 5 LOS (out), 6 AEC+, 7 AEC-, 8 DI (in), 9 ~{DI} (in), 10 VEE (power), 11 VEE (power), 12 ~{MUTE} (in), 13 DO (out), 14 ~{DO} (out)

## CLC014AJE
designator U?
Adaptive Cable Equalizer for High Speed Data Recovery, 14-pin Narrow SOIC; PartNumber: CLC014AJE; Manufacturer: National Semiconductor; PackageTopMarking: NSUZXYTT*CLC014AJE; CompType: Interface IC; Published: 4-Dec-2008; DatasheetVersion: Aug-2003; PackageVersion: revJ, Jan-1996; PackageReference: M14A; Publisher: Altium Limited; PackageDescription: Molded Package S.O., .150in Wide, 14 Lead; Supplier 1: Farnell; Supplier Part Number 1: 1495093; RoHS: O; PinCount: 14; Code_JEDEC: MS-012AB; Code_IPC: SOIC127P600-14; ComponentLink1Description: CLC014 Datasheet; ComponentLink1URL: http://www.national.com/ds/CL/CLC014.pdf; ComponentLink2Description: CLC014 Web Page; ComponentLink2URL: http://www.national.com/pf/CL/CLC014.html; ComponentLink3Description: M14A Package Page; ComponentLink3URL: http://www.national.com/packaging/folders/m14a.html
footprint M14A_N (SOIC, 14-Leads, Body 8.6x3.9mm, Pitch 1.27mm, IPC Medium Density)
footprint M14A_L (SOIC, 14-Leads, Body 8.6x3.9mm, Pitch 1.27mm, IPC High Density)
footprint M14A_M (SOIC, 14-Leads, Body 8.6x3.9mm, Pitch 1.27mm, IPC Low Density)
pins: 1 VCC (power), 2 VCC (power), 3 OEM (out), 4 VCC (power), 5 CD (out), 6 AEC+, 7 AEC-, 8 DI (in), 9 ~{DI} (in), 10 VEE (power), 11 VEE (power), 12 ~{MUTE} (in), 13 DO (out), 14 ~{DO} (out)

## CLC016ACQ
designator U?
Data Retiming PLL with Automatic Rate Selection, 28-pin PLCC; PartNumber: CLC016ACQ; Manufacturer: National Semiconductor; PackageTopMarking: NSUZXYYTT*CLC016ACQ; PowerWise: N; CompType: Interface IC; Published: 4-Dec-2008; DatasheetVersion: Jul-2002; PackageVersion: revK, Dec-1993; PackageReference: V28A; Publisher: Altium Limited; PackageDescription: Plastic Chip Carrier, Sq., .050in Pitch, 28 Lead; RoHS: O; PinCount: 28; Code_IPC: PLCC-28; ComponentLink1Description: CLC016 Datasheet; ComponentLink1URL: http://www.national.com/ds/CL/CLC016.pdf; ComponentLink2Description: CLC016 Web Page; ComponentLink2URL: http://www.national.com/pf/CL/CLC016.html; ComponentLink3Description: V28A Package Page; ComponentLink3URL: http://www.national.com/packaging/folders/v28a.html
footprint V28A_N (Leaded Chip Carrier, 28-Leads, Body 11.5x11.5mm, Pitch 1.27mm, IPC Medium Density)
footprint V28A_L (Leaded Chip Carrier, 28-Leads, Body 11.5x11.5mm, Pitch 1.27mm, IPC High Density)
footprint V28A_M (Leaded Chip Carrier, 28-Leads, Body 11.5x11.5mm, Pitch 1.27mm, IPC Low Density)
pins: 1 VEE (power), 2 CARS, 3 VEE (power), 4 SER (out), 5 DDI (in), 6 ~{DDI} (in), 7 VCC (power), 8 ACQ/WR (in), 9 ~{VC} (in), 10 FD (out), 11 VEE (power), 12 VC (in), 13 R0, 14 R1, 15 R2, 16 AUTO (in), 17 R3, 18 RTN, 19 CD (out), 20 RD0 (io), 21 RD1 (io), 22 ~{SCO} (out), 23 SCO (out), 24 ~{SDO} (out), 25 SDO (out), 26 VCC (power), 27 VEE (power), 28 ~{MUTE} (in)

## CLC016AJQ
designator U?
Data Retiming PLL with Automatic Rate Selection, 28-pin PLCC; PartNumber: CLC016AJQ; Manufacturer: National Semiconductor; PackageTopMarking: NSUZXYYTT*CLC016AJQ; PowerWise: N; CompType: Interface IC; Published: 4-Dec-2008; DatasheetVersion: Jul-2002; PackageVersion: revK, Dec-1993; PackageReference: V28A; Publisher: Altium Limited; PackageDescription: Plastic Chip Carrier, Sq., .050in Pitch, 28 Lead; Supplier 1: Farnell; Supplier Part Number 1: 7592334; RoHS: O; PinCount: 28; Code_IPC: PLCC-28; ComponentLink1Description: CLC016 Datasheet; ComponentLink1URL: http://www.national.com/ds/CL/CLC016.pdf; ComponentLink2Description: CLC016 Web Page; ComponentLink2URL: http://www.national.com/pf/CL/CLC016.html; ComponentLink3Description: V28A Package Page; ComponentLink3URL: http://www.national.com/packaging/folders/v28a.html
footprint V28A_N (Leaded Chip Carrier, 28-Leads, Body 11.5x11.5mm, Pitch 1.27mm, IPC Medium Density)
footprint V28A_L (Leaded Chip Carrier, 28-Leads, Body 11.5x11.5mm, Pitch 1.27mm, IPC High Density)
footprint V28A_M (Leaded Chip Carrier, 28-Leads, Body 11.5x11.5mm, Pitch 1.27mm, IPC Low Density)
pins: 1 VEE (power), 2 CARS, 3 VEE (power), 4 SER (out), 5 DDI (in), 6 ~{DDI} (in), 7 VCC (power), 8 ACQ/WR (in), 9 ~{VC} (in), 10 FD (out), 11 VEE (power), 12 VC (in), 13 R0, 14 R1, 15 R2, 16 AUTO (in), 17 R3, 18 RTN, 19 CD (out), 20 RD0 (io), 21 RD1 (io), 22 ~{SCO} (out), 23 SCO (out), 24 ~{SDO} (out), 25 SDO (out), 26 VCC (power), 27 VEE (power), 28 ~{MUTE} (in)

## CLC016MTC
designator U?
Data Retiming PLL with Automatic Rate Selection, 28-pin TSSOP; PartNumber: CLC016MTC; Manufacturer: National Semiconductor; PackageTopMarking: NSUZXYTT*CLC016MTC; PowerWise: N; CompType: Interface IC; Published: 4-Dec-2008; DatasheetVersion: Jul-2002; PackageVersion: revD, Jan-2005; PackageReference: MTC28; Publisher: Altium Limited; PackageDescription: Molded TSSOP, Jedec, 9.7 x 4.4 x 0.9mm Body, 28 Lead, 0.65mm Pitch; Supplier 1: Farnell; Supplier Part Number 1: 1286814; RoHS: O; PinCount: 28; Code_JEDEC: MO-153-AE; ComponentLink1Description: CLC016 Datasheet; ComponentLink1URL: http://www.national.com/ds/CL/CLC016.pdf; ComponentLink2Description: CLC016 Web Page; ComponentLink2URL: http://www.national.com/pf/CL/CLC016.html; ComponentLink3Description: MTC28 Package Page; ComponentLink3URL: http://www.national.com/packaging/folders/mtc28.html
footprint MTC28_N (TSOP, 28-Leads, Body 9.7x4.4mm, Pitch 0.65mm, IPC Medium Density)
footprint MTC28_L (TSOP, 28-Leads, Body 9.7x4.4mm, Pitch 0.65mm, IPC High Density)
footprint MTC28_M (TSOP, 28-Leads, Body 9.7x4.4mm, Pitch 0.65mm, IPC Low Density)
pins: 1 ~{SCO} (out), 2 SCO (out), 3 ~{SDO} (out), 4 SDO (out), 5 VCC (power), 6 VEE (power), 7 ~{MUTE} (in), 8 VEE (power), 9 CARS, 10 VEE (power), 11 SER (out), 12 DDI (in), 13 ~{DDI} (in), 14 VCC (power), 15 ACQ/WR (in), 16 ~{VC} (in), 17 FD (out), 18 VEE (power), 19 VC (in), 20 R0, 21 R1, 22 R2, 23 AUTO (in), 24 R3, 25 RTN, 26 CD (out), 27 RD0 (io), 28 RD1 (io)

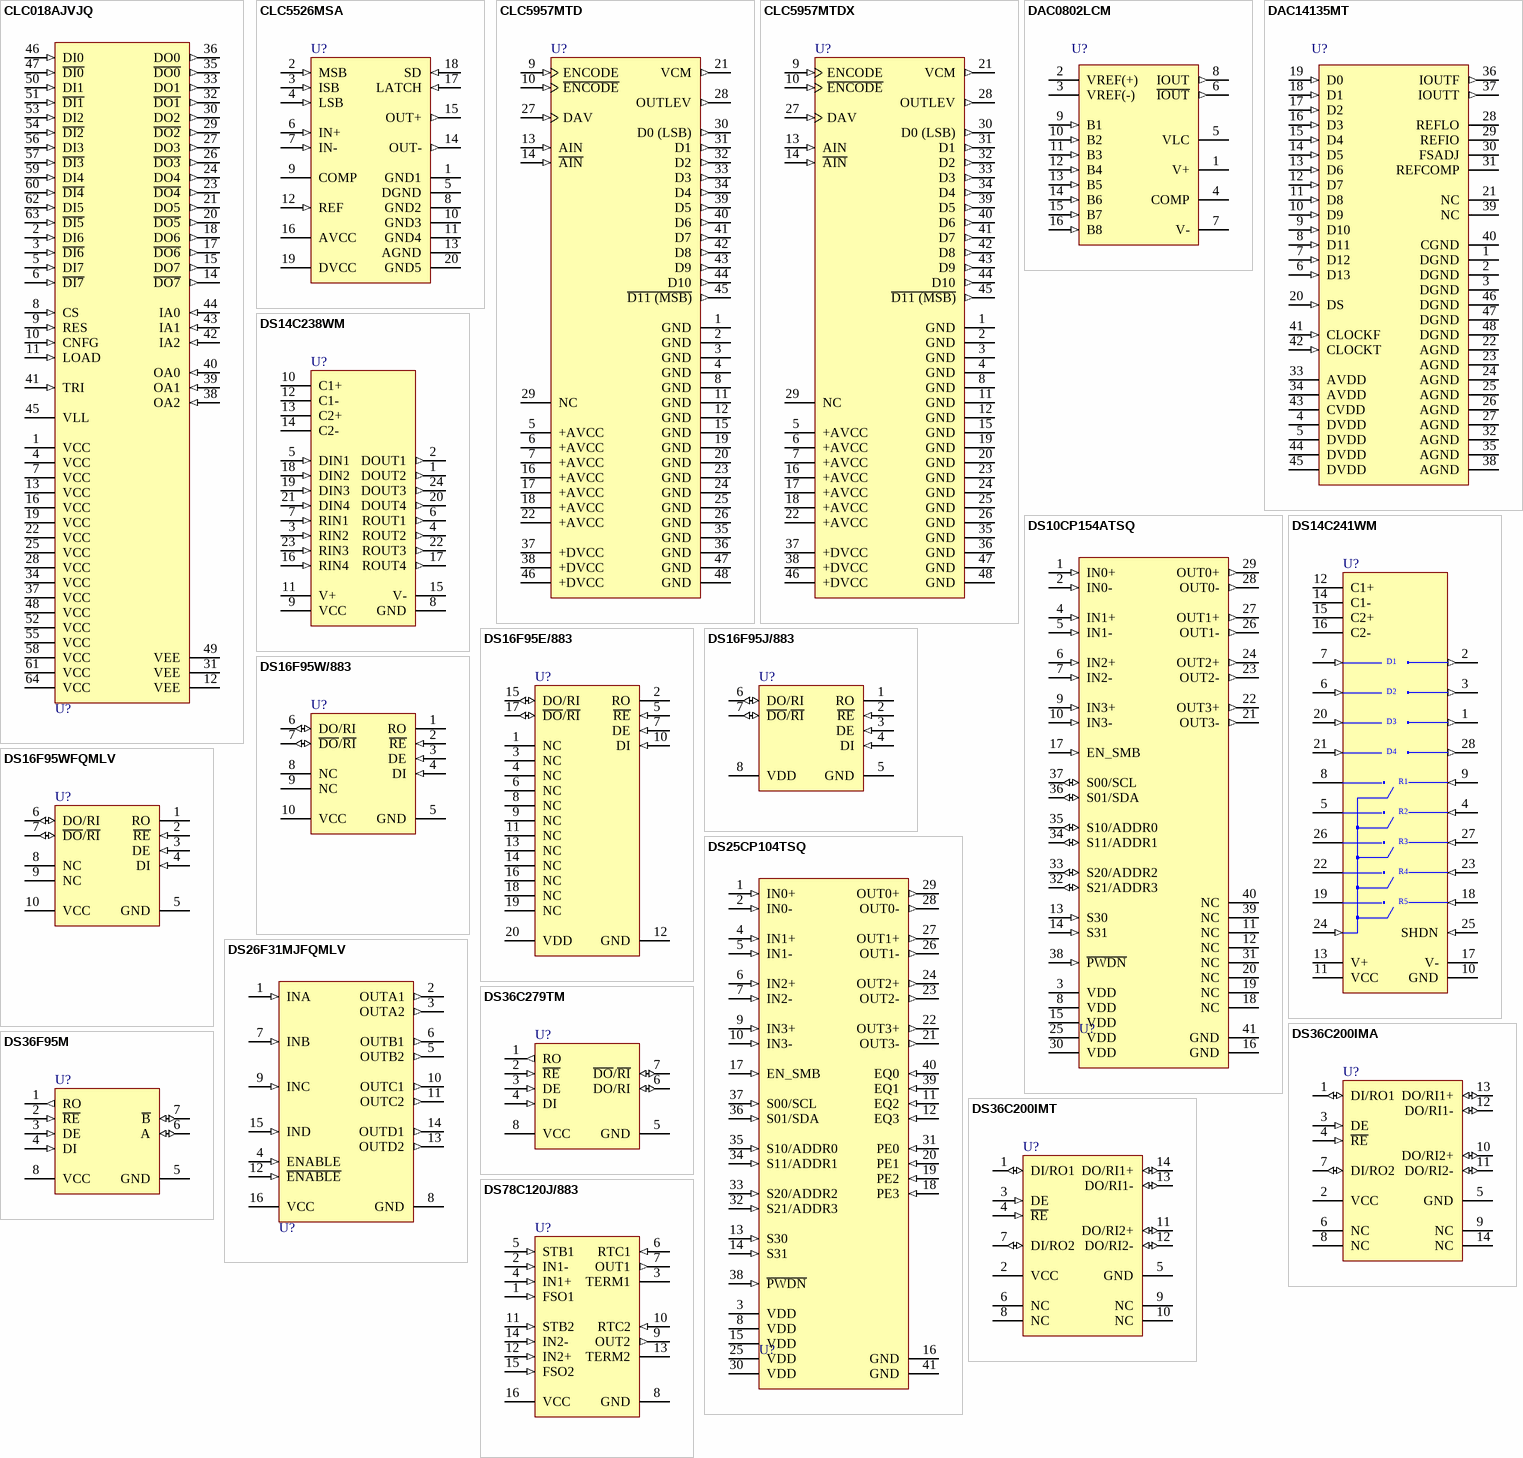
[diagram p2: symbols CLC018AJVJQ to DS78C120J/883]

## CLC018AJVJQ
designator U?
8x8 Digital Crosspoint Switch, 1.4 Gbps, 64-pin PQFP; PartNumber: CLC018AJVJQ; Manufacturer: National Semiconductor; PackageTopMarking: NSUZXYYTT*CLC018AJVJQ; PowerWise: N; CompType: Interface IC; Published: 4-Dec-2008; DatasheetVersion: Aug-2006; PackageVersion: revC, Jul-1995; PackageReference: VJQ64A; Publisher: Altium Limited; PackageDescription: PQFP, JEDEC Metric, (S) 14 x 14 x 2mm, 64 Lead; RoHS: O; PinCount: 64; Code_JEDEC: MS-022-BB; Code_IPC: QFP80P1720X1720-64; ComponentLink1Description: CLC018 Datasheet; ComponentLink1URL: http://www.national.com/ds/CL/CLC018.pdf; ComponentLink2Description: CLC018 Web Page; ComponentLink2URL: http://www.national.com/pf/CL/CLC018.html; ComponentLink3Description: VJQ64A Package Page; ComponentLink3URL: http://www.national.com/packaging/folders/vjq64a.html
footprint VJQ64A_N (QFP, 64-Leads, Body 14x14mm, Pitch 0.8mm, IPC Medium Density)
footprint VJQ64A_L (QFP, 64-Leads, Body 14x14mm, Pitch 0.8mm, IPC High Density)
footprint VJQ64A_M (QFP, 64-Leads, Body 14x14mm, Pitch 0.8mm, IPC Low Density)
pins: 1 VCC (power), 2 DI6 (in), 3 ~{DI6} (in), 4 VCC (power), 5 DI7 (in), 6 ~{DI7} (in), 7 VCC (power), 8 CS (in), 9 RES (in), 10 CNFG (in), 11 LOAD (in), 12 VEE (power), 13 VCC (power), 14 ~{DO7} (out), 15 DO7 (out), 16 VCC (power), 17 ~{DO6} (out), 18 DO6 (out), 19 VCC (power), 20 ~{DO5} (out), 21 DO5 (out), 22 VCC (power), 23 ~{DO4} (out), 24 DO4 (out), 25 VCC (power), 26 ~{DO3} (out), 27 DO3 (out), 28 VCC (power), 29 ~{DO2} (out), 30 DO2 (out), 31 VEE (power), 32 ~{DO1} (out), 33 DO1 (out), 34 VCC (power), 35 ~{DO0} (out), 36 DO0 (out), 37 VCC (power), 38 OA2 (in), 39 OA1 (in), 40 OA0 (in), 41 TRI (in), 42 IA2 (in), 43 IA1 (in), 44 IA0 (in), 45 VLL (power), 46 DI0 (in), 47 ~{DI0} (in), 48 VCC (power), 49 VEE (power), 50 DI1 (in), 51 ~{DI1} (in), 52 VCC (power), 53 DI2 (in), 54 ~{DI2} (in), 55 VCC (power), 56 DI3 (in), 57 ~{DI3} (in), 58 VCC (power), 59 DI4 (in), 60 ~{DI4} (in), 61 VCC (power), 62 DI5 (in), 63 ~{DI5} (in), 64 VCC (power)

## CLC5526MSA
designator U?
Digital Variable Gain Amplifier (DVGA), 20-pin SSOP; PartNumber: CLC5526MSA; Manufacturer: National Semiconductor; PackageTopMarking: NSUZXYTT*CLC5526*MSA; PowerWise: N; CompType: Amplifiers; Published: 29-May-2009; DatasheetVersion: Sep-2002; PackageVersion: 2000; PackageReference: MSA20; Publisher: Altium Limited; PackageDescription: Molded SSOP, 5.3mm Body Width, 0.65mm Pitch, EIAJ, Type II, 20 Lead; RoHS: O; PinCount: 20; ComponentLink1Description: CLC5526 Datasheet; ComponentLink1URL: http://www.national.com/ds/CL/CLC5526.pdf; ComponentLink2Description: CLC5526 Web Page; ComponentLink2URL: http://www.national.com/pf/CL/CLC5526.html; ComponentLink3Description: MSA20 Package Page; ComponentLink3URL: http://www.national.com/packaging/folders/msa20.html
footprint MSA20_N (SOP, 20-Leads, Body 7.3x5.3mm, Pitch 0.65mm, IPC Medium Density)
footprint MSA20_L (SOP, 20-Leads, Body 7.3x5.3mm, Pitch 0.65mm, IPC High Density)
footprint MSA20_M (SOP, 20-Leads, Body 7.3x5.3mm, Pitch 0.65mm, IPC Low Density)
pins: 1 GND1 (power), 2 MSB (in), 3 ISB (in), 4 LSB (in), 5 DGND (power), 6 IN+ (in), 7 IN- (in), 8 GND2 (power), 9 COMP, 10 GND3 (power), 11 GND4 (power), 12 REF (in), 13 AGND (power), 14 OUT- (out), 15 OUT+ (out), 16 AVCC (power), 17 LATCH (in), 18 SD (in), 19 DVCC (power), 20 GND5 (power)

## CLC5957MTD
designator U?
12-Bit, 70 MSPS Broadband Monolithic A/D Converter, 48-pin TSSOP; PartNumber: CLC5957MTD; Manufacturer: National Semiconductor; PackageTopMarking: NSUZXYTT*CLC5957MTD; PowerWise: N; CompType: OtherParts; Published: 4-Dec-2008; DatasheetVersion: Apr-2002; PackageVersion: revE, Apr-2003; PackageReference: MTD48; Publisher: Altium Limited; PackageDescription: Molded TSSOP, Jedec, 12.5 x 6.1 x 0.9mm Body, 48 Lead, 0.50mm Pitch; Supplier 1: Farnell; Supplier Part Number 1: 1554777; RoHS: O; PinCount: 48; Code_JEDEC: MO-153-ED; ComponentLink1Description: CLC5957 Datasheet; ComponentLink1URL: http://www.national.com/ds/CL/CLC5957.pdf; ComponentLink2Description: CLC5957 Web Page; ComponentLink2URL: http://www.national.com/pf/CL/CLC5957.html; ComponentLink3Description: MTD48 package page; ComponentLink3URL: http://www.national.com/packaging/folders/mtd48.html
footprint MTD48_N (TSSOP, 48-Leads, Body 12.5x6.1mm, Pitch 0.5mm, IPC Medium Density)
footprint MTD48_L (TSSOP, 48-Leads, Body 12.5x6.1mm, Pitch 0.5mm, IPC High Density)
footprint MTD48_M (TSSOP, 48-Leads, Body 12.5x6.1mm, Pitch 0.5mm, IPC Low Density)
pins: 1 GND (power), 2 GND (power), 3 GND (power), 4 GND (power), 5 +AVCC (power), 6 +AVCC (power), 7 +AVCC (power), 8 GND (power), 9 ENCODE (in), 10 ~{ENCODE} (in), 11 GND (power), 12 GND (power), 13 AIN (in), 14 ~{AIN} (in), 15 GND (power), 16 +AVCC (power), 17 +AVCC (power), 18 +AVCC (power), 19 GND (power), 20 GND (power), 21 VCM (out), 22 +AVCC (power), 23 GND (power), 24 GND (power), 25 GND (power), 26 GND (power), 27 DAV (in), 28 OUTLEV (out), 29 NC, 30 D0 (LSB) (out), 31 D1 (out), 32 D2 (out), 33 D3 (out), 34 D4 (out), 35 GND (power), 36 GND (power), 37 +DVCC (power), 38 +DVCC (power), 39 D5 (out), 40 D6 (out), 41 D7 (out), 42 D8 (out), 43 D9 (out), 44 D10 (out), 45 ~{D11 (MSB)} (out), 46 +DVCC (power), 47 GND (power), 48 GND (power)

## CLC5957MTDX
designator U?
12-Bit, 70 MSPS Broadband Monolithic A/D Converter, 48-pin TSSOP; PartNumber: CLC5957MTDX; Manufacturer: National Semiconductor; PackageTopMarking: NSUZXYTT*CLC5957MTD; CompType: Analog IC; Published: 4-Dec-2008; DatasheetVersion: Apr-2002; PackageVersion: revE, Apr-2003; PackageReference: MTD48; Publisher: Altium Limited; PackageDescription: Molded TSSOP, Jedec, 12.5 x 6.1 x 0.9mm Body, 48 Lead, 0.50mm Pitch; PinCount: 48; Code_JEDEC: MO-153-ED; ComponentLink1Description: CLC5957 Datasheet; ComponentLink1URL: http://www.national.com/ds/CL/CLC5957.pdf; ComponentLink2Description: CLC5957 Web Page; ComponentLink2URL: http://www.national.com/pf/CL/CLC5957.html; ComponentLink3Description: MTD48 package page; ComponentLink3URL: http://www.national.com/packaging/folders/mtd48.html
footprint MTD48_N (TSSOP, 48-Leads, Body 12.5x6.1mm, Pitch 0.5mm, IPC Medium Density)
footprint MTD48_L (TSSOP, 48-Leads, Body 12.5x6.1mm, Pitch 0.5mm, IPC High Density)
footprint MTD48_M (TSSOP, 48-Leads, Body 12.5x6.1mm, Pitch 0.5mm, IPC Low Density)
pins: 1 GND (power), 2 GND (power), 3 GND (power), 4 GND (power), 5 +AVCC (power), 6 +AVCC (power), 7 +AVCC (power), 8 GND (power), 9 ENCODE (in), 10 ~{ENCODE} (in), 11 GND (power), 12 GND (power), 13 AIN (in), 14 ~{AIN} (in), 15 GND (power), 16 +AVCC (power), 17 +AVCC (power), 18 +AVCC (power), 19 GND (power), 20 GND (power), 21 VCM (out), 22 +AVCC (power), 23 GND (power), 24 GND (power), 25 GND (power), 26 GND (power), 27 DAV (in), 28 OUTLEV (out), 29 NC, 30 D0 (LSB) (out), 31 D1 (out), 32 D2 (out), 33 D3 (out), 34 D4 (out), 35 GND (power), 36 GND (power), 37 +DVCC (power), 38 +DVCC (power), 39 D5 (out), 40 D6 (out), 41 D7 (out), 42 D8 (out), 43 D9 (out), 44 D10 (out), 45 ~{D11 (MSB)} (out), 46 +DVCC (power), 47 GND (power), 48 GND (power)

## DAC0802LCM
designator U?
8-Bit D/A Converter, 16-pin Narrow SOIC; PartNumber: DAC0802LCM; Manufacturer: National Semiconductor; PackageTopMarking: NSUZXYTT*DAC0802LCM; Published: 4-Dec-2008; DatasheetVersion: Sep-2006; PackageVersion: revJ, Aug-1995; PackageReference: M16A; Publisher: Altium Limited; PackageDescription: Molded Package, SO, .150in Wide, 16 Lead; RoHS: Y; PinCount: 16; CompType: D/A Converter; Code_JEDEC: MS-012-AC; Code_IPC: SOIC127P600-16; ComponentLink1Description: DAC0802 Datasheet; ComponentLink1URL: http://www.national.com/ds/DA/DAC0802.pdf; ComponentLink2Description: DAC0802 Web Page; ComponentLink2URL: http://www.national.com/pf/DA/DAC0802.html; ComponentLink3Description: M16A Package Page; ComponentLink3URL: http://www.national.com/packaging/folders/m16a.html
footprint M16A_N (SOIC, 16-Leads, Body 9.9x3.9mm, Pitch 1.27mm, IPC Medium Density)
footprint M16A_L (SOIC, 16-Leads, Body 9.9x3.9mm, Pitch 1.27mm, IPC High Density)
footprint M16A_M (SOIC, 16-Leads, Body 9.9x3.9mm, Pitch 1.27mm, IPC Low Density)
pins: 1 V+ (power), 2 VREF(+) (power), 3 VREF(-) (power), 4 COMP, 5 VLC, 6 ~{IOUT} (out), 7 V- (power), 8 IOUT (out), 9 B1 (in), 10 B2 (in), 11 B3 (in), 12 B4 (in), 13 B5 (in), 14 B6 (in), 15 B7 (in), 16 B8 (in)

## DAC14135MT
designator U?
14-Bit, 135MSPS D/A Converter, 48-pin TSSOP; PartNumber: DAC14135MT; Manufacturer: National Semiconductor; PackageTopMarking: NSUZXYTT*DAC14135MT; Published: 4-Dec-2008; DatasheetVersion: Nov-1999; PackageVersion: revE, Apr-2003; PackageReference: MTD48; Publisher: Altium Limited; PackageDescription: Molded TSSOP, Jedec, 12.5 x 6.1 x 0.9mm Body, 48 Lead, 0.50mm Pitch; RoHS: O; PinCount: 48; CompType: D/A Converter; Code_JEDEC: MO-153-ED; ComponentLink1Description: DAC14135 Datasheet; ComponentLink1URL: http://www.national.com/ds/DA/DAC14135.pdf; ComponentLink2Description: DAC14135 Web Page; ComponentLink2URL: http://www.national.com/pf/DA/DAC14135.html; ComponentLink3Description: MTD48 Package Page; ComponentLink3URL: http://www.national.com/packaging/folders/mtd48.html
footprint MTD48_N (TSSOP, 48-Leads, Body 12.5x6.1mm, Pitch 0.5mm, IPC Medium Density)
footprint MTD48_L (TSSOP, 48-Leads, Body 12.5x6.1mm, Pitch 0.5mm, IPC High Density)
footprint MTD48_M (TSSOP, 48-Leads, Body 12.5x6.1mm, Pitch 0.5mm, IPC Low Density)
pins: 1 DGND (power), 2 DGND (power), 3 DGND (power), 4 DVDD (power), 5 DVDD (power), 6 D13 (in), 7 D12 (in), 8 D11 (in), 9 D10 (in), 10 D9 (in), 11 D8 (in), 12 D7 (in), 13 D6 (in), 14 D5 (in), 15 D4 (in), 16 D3 (in), 17 D2 (in), 18 D1 (in), 19 D0 (in), 20 DS (in), 21 NC, 22 AGND (power), 23 AGND (power), 24 AGND (power), 25 AGND (power), 26 AGND (power), 27 AGND (power), 28 REFLO, 29 REFIO, 30 FSADJ, 31 REFCOMP, 32 AGND (power), 33 AVDD (power), 34 AVDD (power), 35 AGND (power), 36 IOUTF (out), 37 IOUTT (out), 38 AGND (power), 39 NC, 40 CGND (power), 41 CLOCKF (in), 42 CLOCKT (in), 43 CVDD (power), 44 DVDD (power), 45 DVDD (power), 46 DGND (power), 47 DGND (power), 48 DGND (power)

## DS10CP154ATSQ
designator U?
1.5 Gbps 4x4 LVDS Crosspoint Switch, 40-pin LLP; PartNumber: DS10CP154ATSQ; Manufacturer: National Semiconductor; PackageTopMarking: NS*UZXYTT*1CP154AS; PowerWise: Y; CompType: Interface IC; Published: 4-Dec-2008; DatasheetVersion: Aug-2008; PackageVersion: revB, Mar-2004; PackageReference: SQA40A; Publisher: Altium Limited; PackageDescription: LLP, Plastic, Quad, 6 x 6 x 0.8mm Body, 40 Lead, 0.5mm Pitch, No Pullback; Supplier 1: Farnell; Supplier Part Number 1: 1667412; RoHS: Y; PinCount: 40; ComponentLink1Description: DS10CP154A Datasheet; ComponentLink1URL: http://www.national.com/ds/DS/DS10CP154A.pdf; ComponentLink2Description: DS10CP154A Web Page; ComponentLink2URL: http://www.national.com/pf/DS/DS10CP154A.html; ComponentLink3Description: SQA40A Package Page; ComponentLink3URL: http://www.national.com/packaging/folders/sqa40a.html
footprint SQA40A (QFN, 40-Leads, Body 6x6mm, Pitch 0.5mm, NSC Recommended)
pins: 1 IN0+ (in), 2 IN0- (in), 3 VDD (power), 4 IN1+ (in), 5 IN1- (in), 6 IN2+ (in), 7 IN2- (in), 8 VDD (power), 9 IN3+ (in), 10 IN3- (in), 11 NC, 12 NC, 13 S30 (in), 14 S31 (in), 15 VDD (power), 16 GND (power), 17 EN_SMB (in), 18 NC, 19 NC, 20 NC, 21 OUT3- (out), 22 OUT3+ (out), 23 OUT2- (out), 24 OUT2+ (out), 25 VDD (power), 26 OUT1- (out), 27 OUT1+ (out), 28 OUT0- (out), 29 OUT0+ (out), 30 VDD (power), 31 NC, 32 S21/ADDR3 (io), 33 S20/ADDR2 (io), 34 S11/ADDR1 (io), 35 S10/ADDR0 (io), 36 S01/SDA (io), 37 S00/SCL (io), 38 ~{PWDN} (in), 39 NC, 40 NC, 41 GND (power)

## DS14C238WM
designator U?
Single-Supply TIA/EIA-232 4x4 Driver/Receiver, 24-pin Wide SOIC; PartNumber: DS14C238WM; Manufacturer: National Semiconductor; PackageTopMarking: NSUZXYTT*DS14C238WM; CompType: Interface IC; Published: 4-Dec-2008; DatasheetVersion: Jul-2002; PackageVersion: revF, Apr-1990; PackageReference: M24B; Publisher: Altium Limited; PackageDescription: Molded Package, S.O., .300in Wide, 24 Lead; Supplier 1: Farnell; Supplier Part Number 1: 4465453; RoHS: Y; PinCount: 24; ComponentLink1Description: DS14C238 Datasheet; ComponentLink1URL: http://www.national.com/ds/DS/DS14C238.pdf; ComponentLink2Description: DS14C238 Web Page; ComponentLink2URL: http://www.national.com/pf/DS/DS14C238.html; ComponentLink3Description: M24B Package Page; ComponentLink3URL: http://www.national.com/packaging/folders/m24b.html
footprint M24B_N (SOIC, 24-Leads, Body 15.4x7.5mm, Pitch 1.27mm, IPC Medium Density)
footprint M24B_L (SOIC, 24-Leads, Body 15.4x7.5mm, Pitch 1.27mm, IPC High Density)
footprint M24B_M (SOIC, 24-Leads, Body 15.4x7.5mm, Pitch 1.27mm, IPC Low Density)
pins: 1 DOUT2 (out), 2 DOUT1 (out), 3 RIN2 (in), 4 ROUT2 (out), 5 DIN1 (in), 6 ROUT1 (out), 7 RIN1 (in), 8 GND (power), 9 VCC (power), 10 C1+, 11 V+ (power), 12 C1-, 13 C2+, 14 C2-, 15 V- (power), 16 RIN4 (in), 17 ROUT4 (out), 18 DIN2 (in), 19 DIN3 (in), 20 DOUT4 (out), 21 DIN4 (in), 22 ROUT3 (out), 23 RIN3 (in), 24 DOUT3 (out)